# EAGLE library part MAX4234* (library _MAX4230_MAX4231_MAX4232_MAX4234_MAX14572)
MAX4234 Single-Supply, Rail-to-Rail I/O, High-Output-Drive Quad OpAmps Maxim Integrated Products (Source: www.maxim-ic.com) MAX4234AUD/V+ 14-Lead TSSOP (Thin Shrinked Small Outline Package), RoHS-Compliant Author: Dipl.-Ing. FH Rainer Bayer HHN Hochschule Heilbronn, rainer.bayer@hs-heilbronn.de Ingenieurbüro ing-rb, mail@ing-rb.de
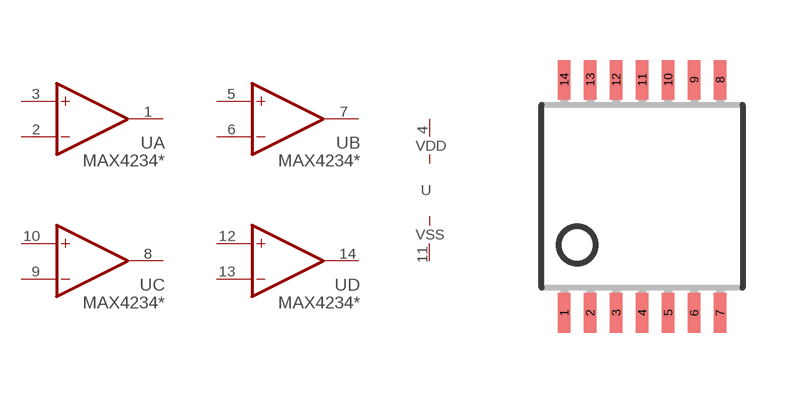
[diagram p2: symbol with the pads of TSSOP14; footprint TSSOP14]

Designator prefix U; gates A=OP B=OP C=OP D=OP G$5=PWR

## MAX4234AUD/V+  [TSSOP14]
1  A:OUT  out
2  A:-IN  in
3  A:+IN  in
4  G$5:VDD  pwr
5  B:+IN  in
6  B:-IN  in
7  B:OUT  out
8  C:OUT  out
9  C:-IN  in
10  C:+IN  in
11  G$5:VSS  pwr
12  D:+IN  in
13  D:-IN  in
14  D:OUT  out

## Footprint TSSOP14 (pad centres in mm)
TSSOP14 Thin Shrink Small Outline Plastic 14 source: MAX3223-MAX3243.pdf
smd 0.305 x 0.991: 1 -1.95,-2.918; 2 -1.3,-2.918; 3 -0.65,-2.918; 4 0,-2.918; 5 0.65,-2.918; 6 1.3,-2.918; 7 1.95,-2.918; 8 1.95,2.918; 9 1.3,2.918; 10 0.65,2.918; 11 0,2.918; 12 -0.65,2.918; 13 -1.3,2.918; 14 -1.95,2.918